# EAGLE library part RS485_WANNE (library roboternetz_definitionen)
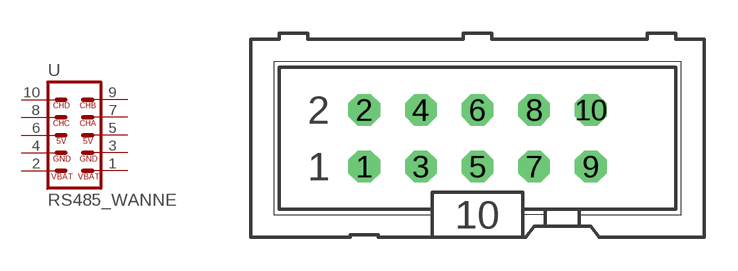
[diagram p8: symbol with the pads of ML10; footprint ML10]

Designator prefix -

## RS485_WANNE  [ML10]
1  1_VBAT  pas
2  2_VBAT  pas
3  3_GND  pas
4  4_GND  pas
5  5_5V  pas
6  6_5V  pas
7  7_CHA  pas
8  8_CHC  pas
9  9_CHB  pas
10  10_CHD  pas

## Footprint ML10 (pad centres in mm)
HARTING
drill 0.914 octagon: 1 -5.08,-1.27; 2 -5.08,1.27; 3 -2.54,-1.27; 4 -2.54,1.27; 5 0,-1.27; 6 0,1.27; 7 2.54,-1.27; 8 2.54,1.27; 9 5.08,-1.27; 10 5.08,1.27